# Altium schematic symbol library Memory_RAM.SchLib: 96 symbols (part 2 of 2)
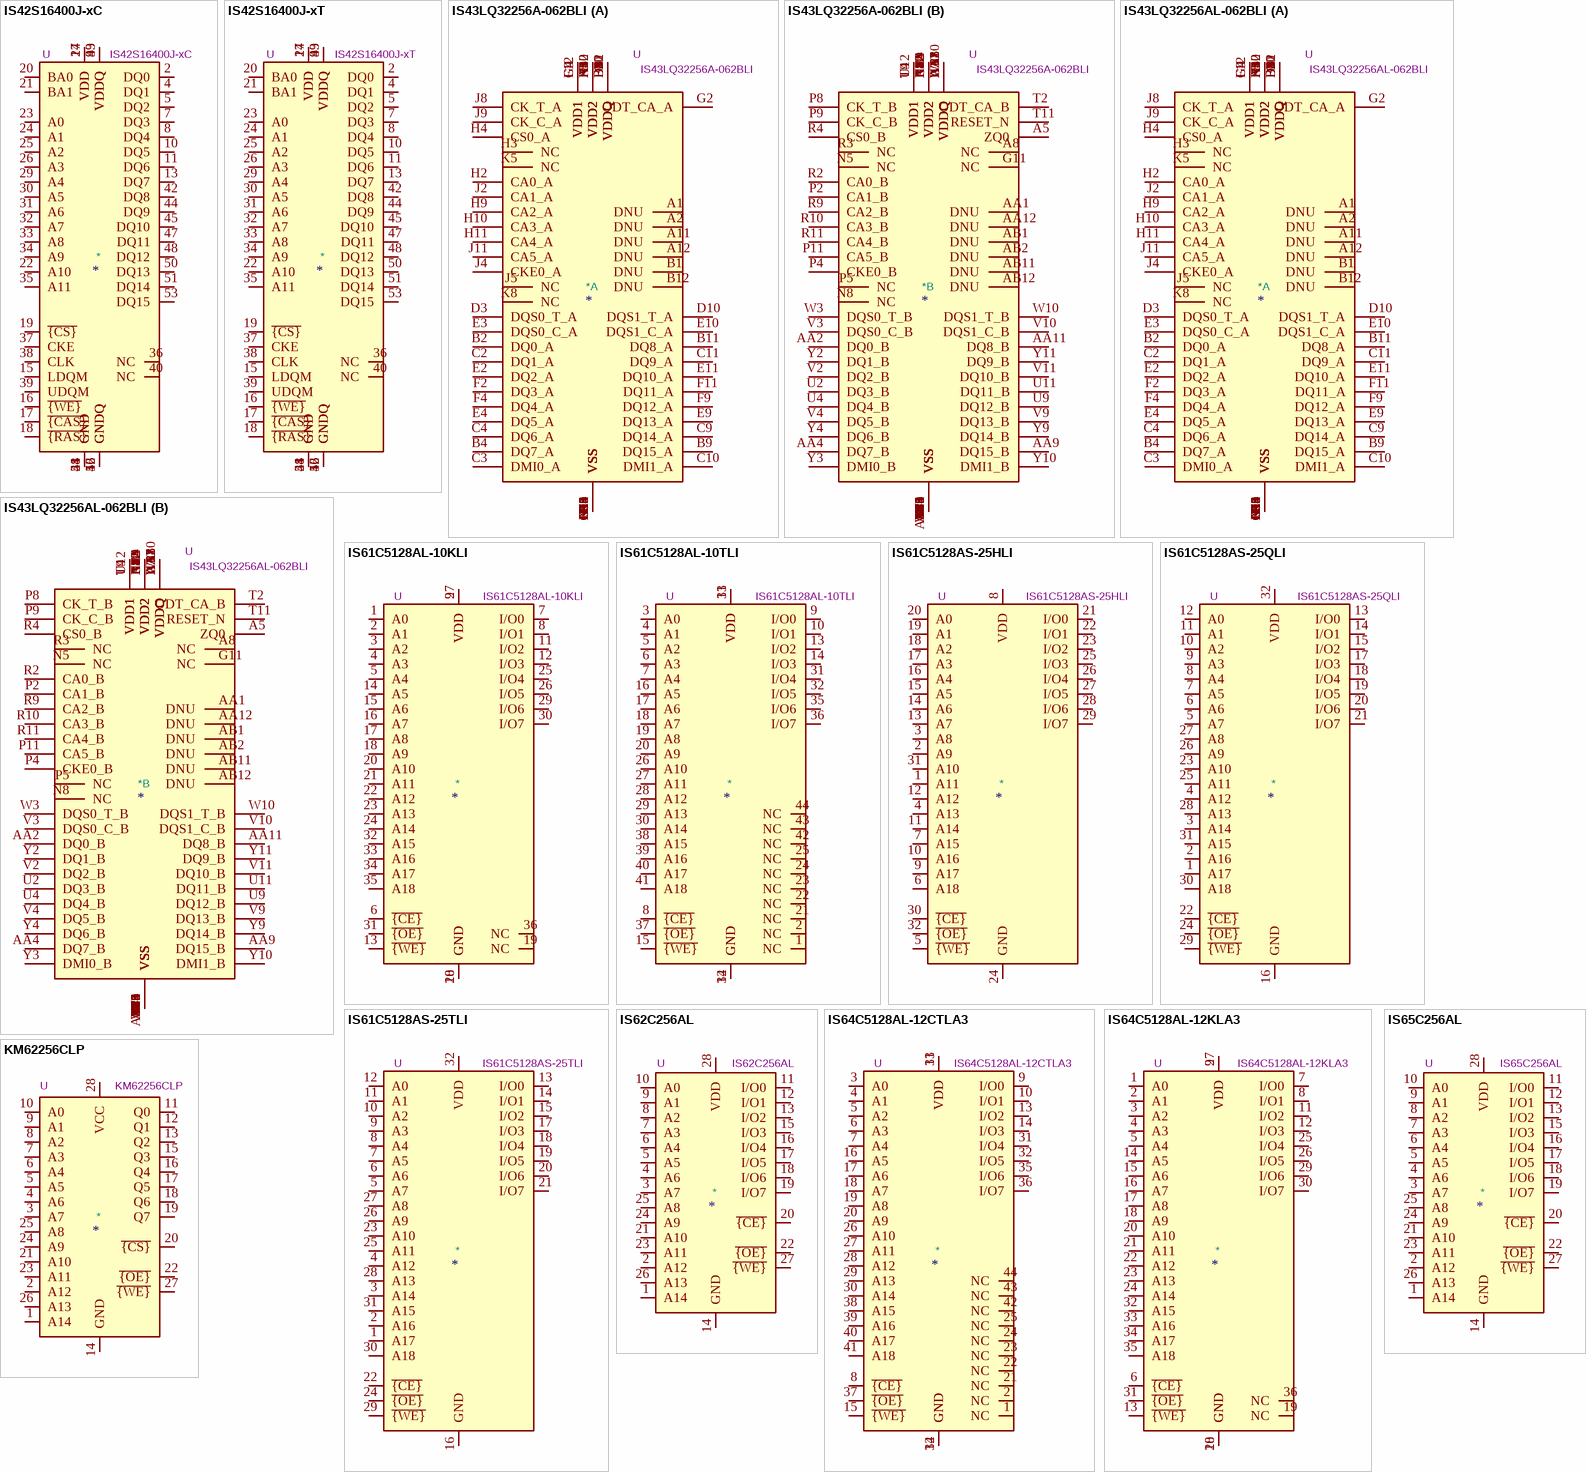
[diagram p6: symbols IS42S16400J-xC to KM62256CLP]

## IS61C5128AS-25TLI
designator *  value IS61C5128AS-25TLI  Reference: U
512K x 8 HIGH-SPEED CMOS STATIC RAM, 25ns, TSOP II-32; ki_keywords: SRAM MEMORY; ki_fp_filters: TSOP*21.0*10.*P1.27mm*; Footprint: Package_SO:TSOP-II-32_21.0x10.2mm_P1.27mm; Datasheet: http://www.issi.com/WW/pdf/61-64C5128AL.pdf; Description_: 512K x 8 HIGH-SPEED CMOS STATIC RAM, 25ns, TSOP II-32
pins: 1 A17, 2 A16, 3 A14, 4 A12, 5 A7, 6 A6, 7 A5, 8 A4, 9 A3, 10 A2, 11 A1, 12 A0, 13 I/O0, 14 I/O1, 15 I/O2, 16 GND, 17 I/O3, 18 I/O4, 19 I/O5, 20 I/O6, 21 I/O7, 22 ~{{CE}}, 23 A10, 24 ~{{OE}}, 25 A11, 26 A9, 27 A8, 28 A13, 29 ~{{WE}}, 30 A18, 31 A15, 32 VDD

## IS62C256AL
designator *  value IS62C256AL  Reference: U
32Kx8 bit Low Power CMOS Static RAM, 25/45ns; ki_keywords: SRAM MEMORY ISSI parallel-interface; ki_fp_filters: SOP*8.4*18.16*P1.27*; Footprint: Package_SO:SOP-28_8.4x18.16mm_P1.27mm; Datasheet: https://www.issi.com/WW/pdf/62-65C256AL.pdf; Description_: 32Kx8 bit Low Power CMOS Static RAM, 25/45ns
pins: 1 A14, 2 A12, 3 A7, 4 A6, 5 A5, 6 A4, 7 A3, 8 A2, 9 A1, 10 A0, 11 I/O0, 12 I/O1, 13 I/O2, 14 GND, 15 I/O3, 16 I/O4, 17 I/O5, 18 I/O6, 19 I/O7, 20 ~{{CE}}, 21 A10, 22 ~{{OE}}, 23 A11, 24 A9, 25 A8, 26 A13, 27 ~{{WE}}, 28 VDD

## IS64C5128AL-12CTLA3
designator *  value IS64C5128AL-12CTLA3  Reference: U
512K x 8 HIGH-SPEED CMOS STATIC RAM, 12ns, TSOP II-44; ki_keywords: SRAM MEMORY; ki_fp_filters: TSOP*10.16*18.*P0.8mm*; Footprint: Package_SO:TSOP-II-44_10.16x18.41mm_P0.8mm; Datasheet: http://www.issi.com/WW/pdf/61-64C5128AL.pdf; Description_: 512K x 8 HIGH-SPEED CMOS STATIC RAM, 12ns, TSOP II-44
pins: 1 NC, 2 NC, 3 A0, 4 A1, 5 A2, 6 A3, 7 A4, 8 ~{{CE}}, 9 I/O0, 10 I/O1, 11 VDD, 12 GND, 13 I/O2, 14 I/O3, 15 ~{{WE}}, 16 A5, 17 A6, 18 A7, 19 A8, 20 A9, 21 NC, 22 NC, 23 NC, 24 NC, 25 NC, 26 A10, 27 A11, 28 A12, 29 A13, 30 A14, 31 I/O4, 32 I/O5, 33 VDD, 34 GND, 35 I/O6, 36 I/O7, 37 ~{{OE}}, 38 A15, 39 A16, 40 A17, 41 A18, 42 NC, 43 NC, 44 NC

## IS64C5128AL-12KLA3
designator *  value IS64C5128AL-12KLA3  Reference: U
512K x 8 HIGH-SPEED CMOS STATIC RAM, 12ns, SOJ-36; ki_keywords: SRAM MEMORY; ki_fp_filters: SOJ*10.16*23.*P1.27mm*; Footprint: Package_SO:SOJ-36_10.16x23.495mm_P1.27mm; Datasheet: http://www.issi.com/WW/pdf/61-64C5128AL.pdf; Description_: 512K x 8 HIGH-SPEED CMOS STATIC RAM, 12ns, SOJ-36
pins: 1 A0, 2 A1, 3 A2, 4 A3, 5 A4, 6 ~{{CE}}, 7 I/O0, 8 I/O1, 9 VDD, 10 GND, 11 I/O2, 12 I/O3, 13 ~{{WE}}, 14 A5, 15 A6, 16 A7, 17 A8, 18 A9, 19 NC, 20 A10, 21 A11, 22 A12, 23 A13, 24 A14, 25 I/O4, 26 I/O5, 27 VDD, 28 GND, 29 I/O6, 30 I/O7, 31 ~{{OE}}, 32 A15, 33 A16, 34 A17, 35 A18, 36 NC

## IS65C256AL
designator *  value IS65C256AL  Reference: U
32Kx8 bit Low Power CMOS Static RAM, 25/45ns, Automotive; ki_keywords: SRAM MEMORY ISSI parallel-interface; ki_fp_filters: SOP*8.4*18.16*P1.27*; Footprint: Package_SO:SOP-28_8.4x18.16mm_P1.27mm; Datasheet: https://www.issi.com/WW/pdf/62-65C256AL.pdf; Description_: 32Kx8 bit Low Power CMOS Static RAM, 25/45ns, Automotive
pins: 1 A14, 2 A12, 3 A7, 4 A6, 5 A5, 6 A4, 7 A3, 8 A2, 9 A1, 10 A0, 11 I/O0, 12 I/O1, 13 I/O2, 14 GND, 15 I/O3, 16 I/O4, 17 I/O5, 18 I/O6, 19 I/O7, 20 ~{{CE}}, 21 A10, 22 ~{{OE}}, 23 A11, 24 A9, 25 A8, 26 A13, 27 ~{{WE}}, 28 VDD

## KM62256CLP
designator *  value KM62256CLP  Reference: U
32Kx8 bit Low Power CMOS Static RAM, 55/70ns, DIP-28; ki_keywords: RAM SRAM CMOS MEMORY; ki_fp_filters: DIP*W15.24mm*; Footprint: Package_DIP:DIP-28_W15.24mm; Datasheet: https://www.futurlec.com/Datasheet/Memory/62256.pdf; Description_: 32Kx8 bit Low Power CMOS Static RAM, 55/70ns, DIP-28
pins: 1 A14, 2 A12, 3 A7, 4 A6, 5 A5, 6 A4, 7 A3, 8 A2, 9 A1, 10 A0, 11 Q0, 12 Q1, 13 Q2, 14 GND, 15 Q3, 16 Q4, 17 Q5, 18 Q6, 19 Q7, 20 ~{{CS}}, 21 A10, 22 ~{{OE}}, 23 A11, 24 A9, 25 A8, 26 A13, 27 ~{{WE}}, 28 VCC

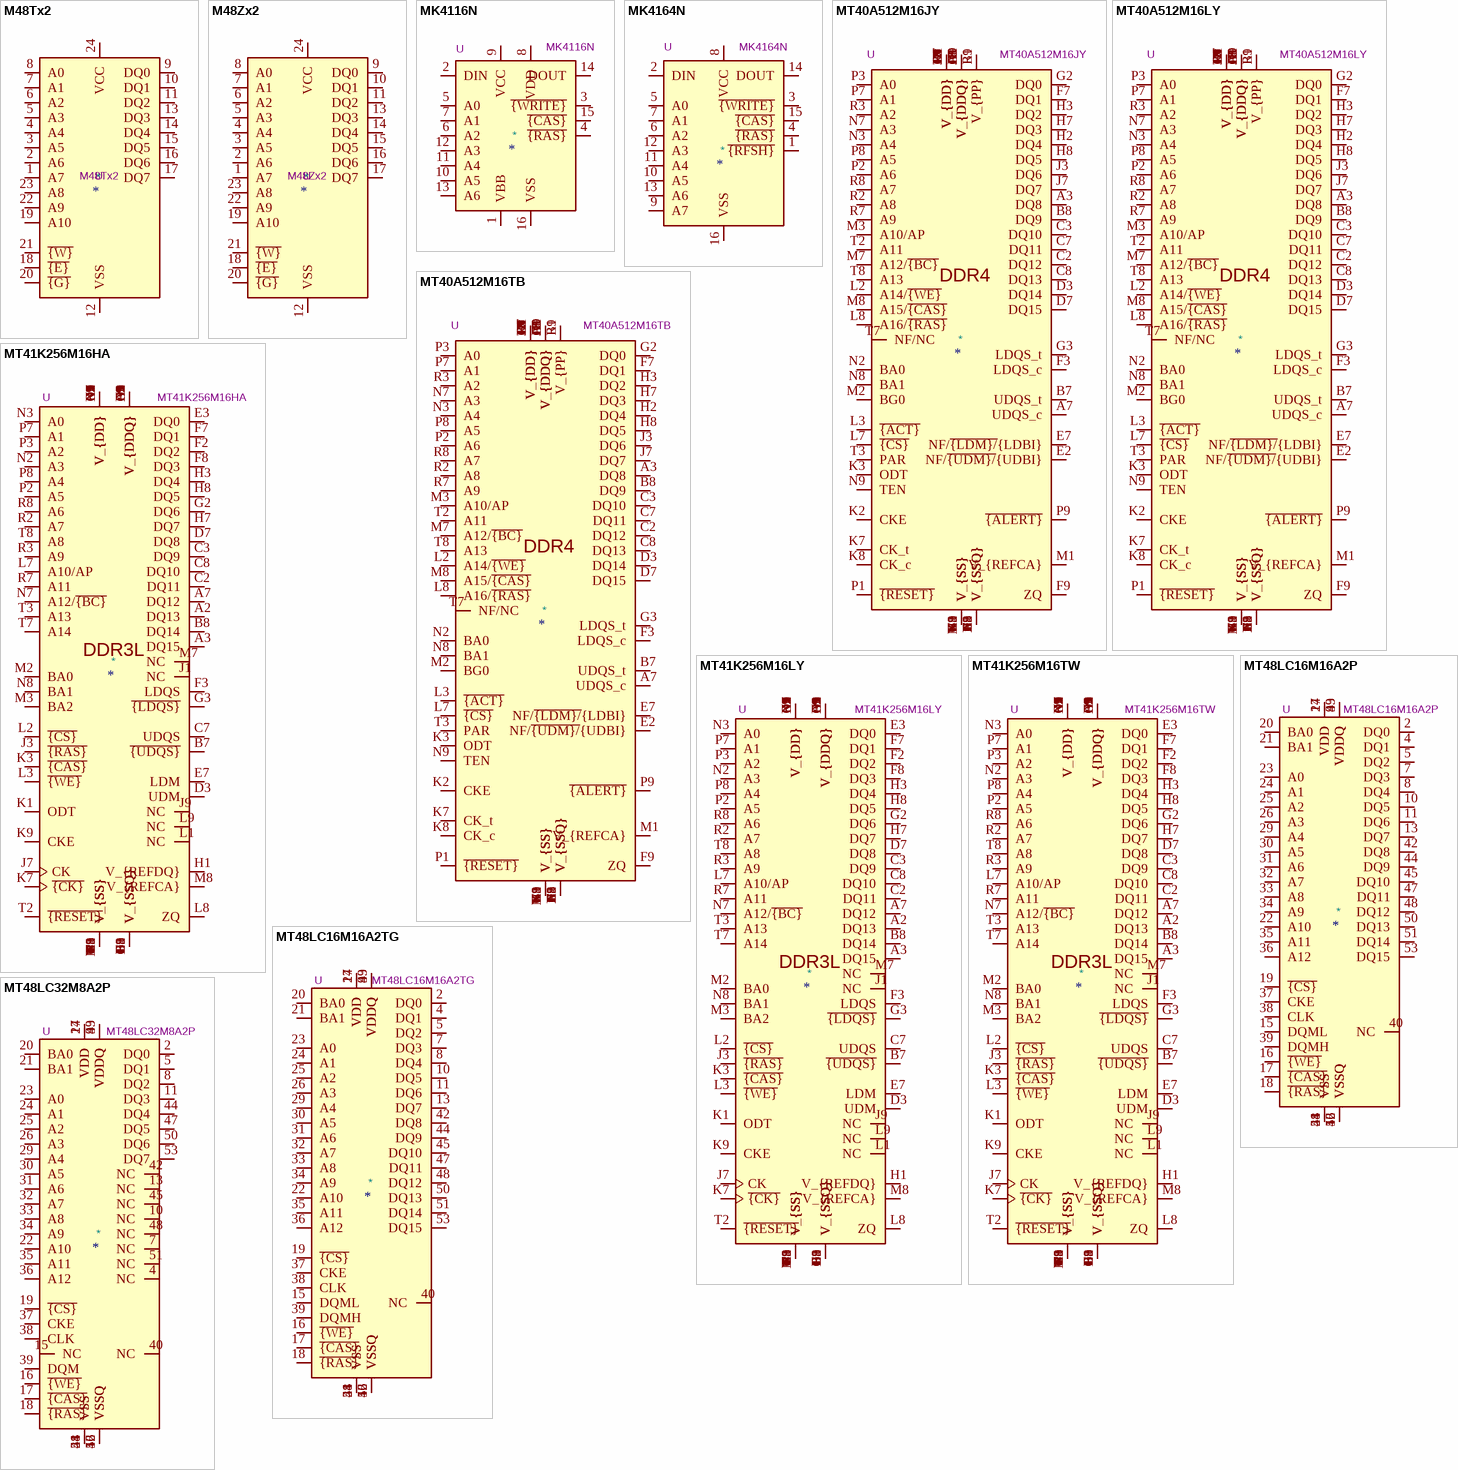
[diagram p4: symbols M48Tx2 to MT48LC32M8A2P]

## M48Tx2
designator *  value M48Tx2  Reference: U
5.0 V, 16 Kbit (2 Kb x 8) TIMEKEEPER® SRAM, DIP-24; ki_keywords: st M48T02 M48T12; ki_fp_filters: DIP*18.0mmx34.29mm*W15.24mm*; Footprint: Package_DIP:DIP-24_18.0mmx34.29mm_W15.24mm; Datasheet: https://www.mouser.at/datasheet/2/389/m48t02-1849963.pdf; Description_: 5.0 V, 16 Kbit (2 Kb x 8) TIMEKEEPER® SRAM, DIP-24
pins: 1 A7, 2 A6, 3 A5, 4 A4, 5 A3, 6 A2, 7 A1, 8 A0, 9 DQ0, 10 DQ1, 11 DQ2, 12 VSS, 13 DQ3, 14 DQ4, 15 DQ5, 16 DQ6, 17 DQ7, 18 ~{{E}}, 19 A10, 20 ~{{G}}, 21 ~{{W}}, 22 A9, 23 A8, 24 VCC

## M48Zx2
designator *  value M48Zx2  Reference: U
5 V, 16 kbit (2 Kb x 8) ZEROPOWER® SRAM, DIP-24; ki_keywords: st M48Z02 M48Z12; ki_fp_filters: DIP*18.0mmx34.29mm*W15.24mm*; Footprint: Package_DIP:DIP-24_18.0mmx34.29mm_W15.24mm; Datasheet: https://www.mouser.at/datasheet/2/389/m48z02-1849661.pdf; Description_: 5 V, 16 kbit (2 Kb x 8) ZEROPOWER® SRAM, DIP-24
pins: 1 A7, 2 A6, 3 A5, 4 A4, 5 A3, 6 A2, 7 A1, 8 A0, 9 DQ0, 10 DQ1, 11 DQ2, 12 VSS, 13 DQ3, 14 DQ4, 15 DQ5, 16 DQ6, 17 DQ7, 18 ~{{E}}, 19 A10, 20 ~{{G}}, 21 ~{{W}}, 22 A9, 23 A8, 24 VCC

## MK4116N
designator *  value MK4116N  Reference: U
16384 x 1 bit Dynamic RAM, 150/200/250ns access time, VBB -5V, VCC 5V, VDD 12V, ±10% tolerance on all power supplies, TTL compatible inputs, DIP-16 (Epoxy/Plastic package); ki_keywords: DRAM NMOS 16Kbit MEMORY Obsolete; ki_fp_filters: *DIP*7.62mm*; Footprint: Package_DIP:DIP-16_W7.62mm; Datasheet: https://deramp.com/downloads/mfe_archive/050-Component%20Specifications/Mostek/1980_Mostek_Memory_Data_Book_and_Designers_Guide.pdf#page=98; Description_: 16384 x 1 bit Dynamic RAM, 150/200/250ns access time, VBB -5V, VCC 5V, VDD 12V, ±10% tolerance on all power supplies, TTL compatible inputs, DIP-16 (Epoxy/Plastic package)
pins: 1 VBB, 2 DIN, 3 ~{{WRITE}}, 4 ~{{RAS}}, 5 A0, 6 A2, 7 A1, 8 VDD, 9 VCC, 10 A5, 11 A4, 12 A3, 13 A6, 14 DOUT, 15 ~{{CAS}}, 16 VSS

## MK4164N
designator *  value MK4164N  Reference: U
65536 x 1 bit Dynamic RAM, 120/150ns access time, single 5V ±10% power supply, TTL compatible inputs, DIP-16 (Epoxy/Plastic package); ki_keywords: DRAM NMOS 64Kbit MEMORY Obsolete; ki_fp_filters: *DIP*7.62mm*; Footprint: Package_DIP:DIP-16_W7.62mm; Datasheet: https://deramp.com/downloads/mfe_archive/050-Component%20Specifications/Mostek/1980_Mostek_Memory_Data_Book_and_Designers_Guide.pdf#page=134; Description_: 65536 x 1 bit Dynamic RAM, 120/150ns access time, single 5V ±10% power supply, TTL compatible inputs, DIP-16 (Epoxy/Plastic package)
pins: 1 ~{{RFSH}}, 2 DIN, 3 ~{{WRITE}}, 4 ~{{RAS}}, 5 A0, 6 A2, 7 A1, 8 VCC, 9 A7, 10 A5, 11 A4, 12 A3, 13 A6, 14 DOUT, 15 ~{{CAS}}, 16 VSS

## MT40A512M16JY
designator *  value MT40A512M16JY  Reference: U
512M x 16-bit (8 Gbit) CMOS Double Data Rate IV Synchronous RAM, Rev. B, FBGA-96; ki_keywords: DDR4 DRAM SDRAM x16 MEMORY; ki_fp_filters: *FBGA*8x14mm*Layout9x16*P0.8mm*; Footprint: Package_BGA:Micron_FBGA-96_8x14mm_Layout9x16_P0.8mm; Datasheet: https://eu.mouser.com/datasheet/2/671/8gb_ddr4_sdram-3178955.pdf; Description_: 512M x 16-bit (8 Gbit) CMOS Double Data Rate IV Synchronous RAM, Rev. B, FBGA-96
pins: A1 V_{DDQ}, A2 V_{SSQ}, A3 DQ8, A7 UDQS_c, A8 V_{SSQ}, A9 V_{DDQ}, B1 V_{PP}, B2 V_{SS}, B3 V_{DD}, B7 UDQS_t, B8 DQ9, B9 V_{DD}, C1 V_{DDQ}, C2 DQ12, C3 DQ10, C7 DQ11, C8 DQ13, C9 V_{SSQ}, D1 V_{DD}, D2 V_{SSQ}, D3 DQ14, D7 DQ15, D8 V_{SSQ}, D9 V_{DDQ}, E1 V_{SS}, E2 NF/~{{UDM}/}{UDBI}, E3 V_{SSQ}, E7 NF/~{{LDM}/}{LDBI}, E8 V_{SSQ}, E9 V_{SS}, F1 V_{SSQ}, F2 V_{DDQ}, F3 LDQS_c, F7 DQ1, F8 V_{DDQ}, F9 ZQ, G1 V_{DDQ}, G2 DQ0, G3 LDQS_t, G7 V_{DD}, G8 V_{SS}, G9 V_{DDQ}, H1 V_{SSQ}, H2 DQ4, H3 DQ2, H7 DQ3, H8 DQ5, H9 V_{SSQ}, J1 V_{DD}, J2 V_{DDQ}, J3 DQ6, J7 DQ7, J8 V_{DDQ}, J9 V_{DD}, K1 V_{SS}, K2 CKE, K3 ODT, K7 CK_t, K8 CK_c, K9 V_{SS}, L1 V_{DD}, L2 A14/~{{WE}}, L3 ~{{ACT}}, L7 ~{{CS}}, L8 A16/~{{RAS}}, L9 V_{DD}, M1 V_{REFCA}, M2 BG0, M3 A10/AP, M7 A12/~{{BC}}, M8 A15/~{{CAS}}, M9 V_{SS}, N1 V_{SS}, N2 BA0, N3 A4, N7 A3, N8 BA1, N9 TEN, P1 ~{{RESET}}, P2 A6, P3 A0, P7 A1, P8 A5, P9 ~{{ALERT}}, R1 V_{DD}, R2 A8, R3 A2, R7 A9, R8 A7, R9 V_{PP}, T1 V_{SS}, T2 A11, T3 PAR, T7 NF/NC, T8 A13, T9 V_{DD}
text: DDR4

## MT40A512M16LY
designator *  value MT40A512M16LY  Reference: U
512M x 16-bit (8 Gbit) CMOS Double Data Rate IV Synchronous RAM, Rev. D / E / H, FBGA-96; ki_keywords: DDR4 DRAM SDRAM x16 MEMORY; ki_fp_filters: *FBGA*7.5x13.5mm*Layout9x16*P0.8mm*; Footprint: Package_BGA:Micron_FBGA-96_7.5x13.5mm_Layout9x16_P0.8mm; Datasheet: https://eu.mouser.com/datasheet/2/671/8gb_ddr4_sdram-3178955.pdf; Description_: 512M x 16-bit (8 Gbit) CMOS Double Data Rate IV Synchronous RAM, Rev. D / E / H, FBGA-96
pins: A1 V_{DDQ}, A2 V_{SSQ}, A3 DQ8, A7 UDQS_c, A8 V_{SSQ}, A9 V_{DDQ}, B1 V_{PP}, B2 V_{SS}, B3 V_{DD}, B7 UDQS_t, B8 DQ9, B9 V_{DD}, C1 V_{DDQ}, C2 DQ12, C3 DQ10, C7 DQ11, C8 DQ13, C9 V_{SSQ}, D1 V_{DD}, D2 V_{SSQ}, D3 DQ14, D7 DQ15, D8 V_{SSQ}, D9 V_{DDQ}, E1 V_{SS}, E2 NF/~{{UDM}/}{UDBI}, E3 V_{SSQ}, E7 NF/~{{LDM}/}{LDBI}, E8 V_{SSQ}, E9 V_{SS}, F1 V_{SSQ}, F2 V_{DDQ}, F3 LDQS_c, F7 DQ1, F8 V_{DDQ}, F9 ZQ, G1 V_{DDQ}, G2 DQ0, G3 LDQS_t, G7 V_{DD}, G8 V_{SS}, G9 V_{DDQ}, H1 V_{SSQ}, H2 DQ4, H3 DQ2, H7 DQ3, H8 DQ5, H9 V_{SSQ}, J1 V_{DD}, J2 V_{DDQ}, J3 DQ6, J7 DQ7, J8 V_{DDQ}, J9 V_{DD}, K1 V_{SS}, K2 CKE, K3 ODT, K7 CK_t, K8 CK_c, K9 V_{SS}, L1 V_{DD}, L2 A14/~{{WE}}, L3 ~{{ACT}}, L7 ~{{CS}}, L8 A16/~{{RAS}}, L9 V_{DD}, M1 V_{REFCA}, M2 BG0, M3 A10/AP, M7 A12/~{{BC}}, M8 A15/~{{CAS}}, M9 V_{SS}, N1 V_{SS}, N2 BA0, N3 A4, N7 A3, N8 BA1, N9 TEN, P1 ~{{RESET}}, P2 A6, P3 A0, P7 A1, P8 A5, P9 ~{{ALERT}}, R1 V_{DD}, R2 A8, R3 A2, R7 A9, R8 A7, R9 V_{PP}, T1 V_{SS}, T2 A11, T3 PAR, T7 NF/NC, T8 A13, T9 V_{DD}
text: DDR4

## MT40A512M16TB
designator *  value MT40A512M16TB  Reference: U
512M x 16-bit (8 Gbit) CMOS Double Data Rate IV Synchronous RAM, Rev. J / R, FBGA-96; ki_keywords: DDR4 DRAM SDRAM x16 MEMORY; ki_fp_filters: *FBGA*7.5x13mm*Layout9x16*P0.8mm*; Footprint: Package_BGA:FBGA-96_7.5x13mm_Layout9x16_P0.8mm; Datasheet: https://eu.mouser.com/datasheet/2/671/8gb_ddr4_sdram-3178955.pdf; Description_: 512M x 16-bit (8 Gbit) CMOS Double Data Rate IV Synchronous RAM, Rev. J / R, FBGA-96
pins: A1 V_{DDQ}, A2 V_{SSQ}, A3 DQ8, A7 UDQS_c, A8 V_{SSQ}, A9 V_{DDQ}, B1 V_{PP}, B2 V_{SS}, B3 V_{DD}, B7 UDQS_t, B8 DQ9, B9 V_{DD}, C1 V_{DDQ}, C2 DQ12, C3 DQ10, C7 DQ11, C8 DQ13, C9 V_{SSQ}, D1 V_{DD}, D2 V_{SSQ}, D3 DQ14, D7 DQ15, D8 V_{SSQ}, D9 V_{DDQ}, E1 V_{SS}, E2 NF/~{{UDM}/}{UDBI}, E3 V_{SSQ}, E7 NF/~{{LDM}/}{LDBI}, E8 V_{SSQ}, E9 V_{SS}, F1 V_{SSQ}, F2 V_{DDQ}, F3 LDQS_c, F7 DQ1, F8 V_{DDQ}, F9 ZQ, G1 V_{DDQ}, G2 DQ0, G3 LDQS_t, G7 V_{DD}, G8 V_{SS}, G9 V_{DDQ}, H1 V_{SSQ}, H2 DQ4, H3 DQ2, H7 DQ3, H8 DQ5, H9 V_{SSQ}, J1 V_{DD}, J2 V_{DDQ}, J3 DQ6, J7 DQ7, J8 V_{DDQ}, J9 V_{DD}, K1 V_{SS}, K2 CKE, K3 ODT, K7 CK_t, K8 CK_c, K9 V_{SS}, L1 V_{DD}, L2 A14/~{{WE}}, L3 ~{{ACT}}, L7 ~{{CS}}, L8 A16/~{{RAS}}, L9 V_{DD}, M1 V_{REFCA}, M2 BG0, M3 A10/AP, M7 A12/~{{BC}}, M8 A15/~{{CAS}}, M9 V_{SS}, N1 V_{SS}, N2 BA0, N3 A4, N7 A3, N8 BA1, N9 TEN, P1 ~{{RESET}}, P2 A6, P3 A0, P7 A1, P8 A5, P9 ~{{ALERT}}, R1 V_{DD}, R2 A8, R3 A2, R7 A9, R8 A7, R9 V_{PP}, T1 V_{SS}, T2 A11, T3 PAR, T7 NF/NC, T8 A13, T9 V_{DD}
text: DDR4

## MT41K256M16HA
designator *  value MT41K256M16HA  Reference: U
32M x 16-bit x 8 Banks (4-Gbit / 512 MB) DDR3L SDRAM, 1.35V nominal supply voltage, Rev. E, FBGA-96 (9x14mm); ki_keywords: Micron MEMORY Double-Data-Rate-3 Low-Voltage-Synchronous-DRAM; ki_fp_filters: Micron*FBGA*9x14mm*Layout9x16*P0.8mm*; Footprint: Package_BGA:Micron_FBGA-96_9x14mm_Layout9x16_P0.8mm; Datasheet: https://mm.digikey.com/Volume0/opasdata/d220001/medias/docus/6128/MT41K1G4_MT41K512M8_MT41K256M16_RevR_Sep2018.pdf; Description_: 32M x 16-bit x 8 Banks (4-Gbit / 512 MB) DDR3L SDRAM, 1.35V nominal supply voltage, Rev. E, FBGA-96 (9x14mm)
pins: A1 V_{DDQ}, A2 DQ13, A3 DQ15, A7 DQ12, A8 V_{DDQ}, A9 V_{SS}, B1 V_{SSQ}, B2 V_{DD}, B3 V_{SS}, B7 ~{{UDQS}}, B8 DQ14, B9 V_{SSQ}, C1 V_{DDQ}, C2 DQ11, C3 DQ9, C7 UDQS, C8 DQ10, C9 V_{DDQ}, D1 V_{SSQ}, D2 V_{DDQ}, D3 UDM, D7 DQ8, D8 V_{SSQ}, D9 V_{DD}, E1 V_{SS}, E2 V_{SSQ}, E3 DQ0, E7 LDM, E8 V_{SSQ}, E9 V_{DDQ}, F1 V_{DDQ}, F2 DQ2, F3 LDQS, F7 DQ1, F8 DQ3, F9 V_{SSQ}, G1 V_{SSQ}, G2 DQ6, G3 ~{{LDQS}}, G7 V_{DD}, G8 V_{SS}, G9 V_{SSQ}, H1 V_{REFDQ}, H2 V_{DDQ}, H3 DQ4, H7 DQ7, H8 DQ5, H9 V_{DDQ}, J1 NC, J2 V_{SS}, J3 ~{{RAS}}, J7 CK, J8 V_{SS}, J9 NC, K1 ODT, K2 V_{DD}, K3 ~{{CAS}}, K7 ~{{CK}}, K8 V_{DD}, K9 CKE, L1 NC, L2 ~{{CS}}, L3 ~{{WE}}, L7 A10/AP, L8 ZQ, L9 NC, M1 V_{SS}, M2 BA0, M3 BA2, M7 NC, M8 V_{REFCA}, M9 V_{SS}, N1 V_{DD}, N2 A3, N3 A0, N7 A12/~{{BC}}, N8 BA1, N9 V_{DD}, P1 V_{SS}, P2 A5, P3 A2, P7 A1, P8 A4, P9 V_{SS}, R1 V_{DD}, R2 A7, R3 A9, R7 A11, R8 A6, R9 V_{DD}, T1 V_{SS}, T2 ~{{RESET}}, T3 A13, T7 A14, T8 A8, T9 V_{SS}
text: DDR3L

## MT41K256M16LY
designator *  value MT41K256M16LY  Reference: U
32M x 16-bit x 8 Banks (4-Gbit / 512 MB) DDR3L SDRAM, 1.35V nominal supply voltage, Rev. N, FBGA-96 (7.5x13.5mm); ki_keywords: Micron MEMORY Double-Data-Rate-3 Low-Voltage-Synchronous-DRAM; ki_fp_filters: Micron*FBGA*7.5x13.5mm*Layout9x16*P0.8mm*; Footprint: Package_BGA:Micron_FBGA-96_7.5x13.5mm_Layout9x16_P0.8mm; Datasheet: https://mm.digikey.com/Volume0/opasdata/d220001/medias/docus/6128/MT41K1G4_MT41K512M8_MT41K256M16_RevR_Sep2018.pdf; Description_: 32M x 16-bit x 8 Banks (4-Gbit / 512 MB) DDR3L SDRAM, 1.35V nominal supply voltage, Rev. N, FBGA-96 (7.5x13.5mm)
pins: A1 V_{DDQ}, A2 DQ13, A3 DQ15, A7 DQ12, A8 V_{DDQ}, A9 V_{SS}, B1 V_{SSQ}, B2 V_{DD}, B3 V_{SS}, B7 ~{{UDQS}}, B8 DQ14, B9 V_{SSQ}, C1 V_{DDQ}, C2 DQ11, C3 DQ9, C7 UDQS, C8 DQ10, C9 V_{DDQ}, D1 V_{SSQ}, D2 V_{DDQ}, D3 UDM, D7 DQ8, D8 V_{SSQ}, D9 V_{DD}, E1 V_{SS}, E2 V_{SSQ}, E3 DQ0, E7 LDM, E8 V_{SSQ}, E9 V_{DDQ}, F1 V_{DDQ}, F2 DQ2, F3 LDQS, F7 DQ1, F8 DQ3, F9 V_{SSQ}, G1 V_{SSQ}, G2 DQ6, G3 ~{{LDQS}}, G7 V_{DD}, G8 V_{SS}, G9 V_{SSQ}, H1 V_{REFDQ}, H2 V_{DDQ}, H3 DQ4, H7 DQ7, H8 DQ5, H9 V_{DDQ}, J1 NC, J2 V_{SS}, J3 ~{{RAS}}, J7 CK, J8 V_{SS}, J9 NC, K1 ODT, K2 V_{DD}, K3 ~{{CAS}}, K7 ~{{CK}}, K8 V_{DD}, K9 CKE, L1 NC, L2 ~{{CS}}, L3 ~{{WE}}, L7 A10/AP, L8 ZQ, L9 NC, M1 V_{SS}, M2 BA0, M3 BA2, M7 NC, M8 V_{REFCA}, M9 V_{SS}, N1 V_{DD}, N2 A3, N3 A0, N7 A12/~{{BC}}, N8 BA1, N9 V_{DD}, P1 V_{SS}, P2 A5, P3 A2, P7 A1, P8 A4, P9 V_{SS}, R1 V_{DD}, R2 A7, R3 A9, R7 A11, R8 A6, R9 V_{DD}, T1 V_{SS}, T2 ~{{RESET}}, T3 A13, T7 A14, T8 A8, T9 V_{SS}
text: DDR3L

## MT41K256M16TW
designator *  value MT41K256M16TW  Reference: U
32M x 16-bit x 8 Banks (4-Gbit / 512 MB) DDR3L SDRAM, 1.35V nominal supply voltage, Rev. P, FBGA-96 (8x14mm); ki_keywords: Micron MEMORY Double-Data-Rate-3 Low-Voltage-Synchronous-DRAM; ki_fp_filters: Micron*FBGA*8x14mm*Layout9x16*P0.8mm*; Footprint: Package_BGA:Micron_FBGA-96_8x14mm_Layout9x16_P0.8mm; Datasheet: https://mm.digikey.com/Volume0/opasdata/d220001/medias/docus/6128/MT41K1G4_MT41K512M8_MT41K256M16_RevR_Sep2018.pdf; Description_: 32M x 16-bit x 8 Banks (4-Gbit / 512 MB) DDR3L SDRAM, 1.35V nominal supply voltage, Rev. P, FBGA-96 (8x14mm)
pins: A1 V_{DDQ}, A2 DQ13, A3 DQ15, A7 DQ12, A8 V_{DDQ}, A9 V_{SS}, B1 V_{SSQ}, B2 V_{DD}, B3 V_{SS}, B7 ~{{UDQS}}, B8 DQ14, B9 V_{SSQ}, C1 V_{DDQ}, C2 DQ11, C3 DQ9, C7 UDQS, C8 DQ10, C9 V_{DDQ}, D1 V_{SSQ}, D2 V_{DDQ}, D3 UDM, D7 DQ8, D8 V_{SSQ}, D9 V_{DD}, E1 V_{SS}, E2 V_{SSQ}, E3 DQ0, E7 LDM, E8 V_{SSQ}, E9 V_{DDQ}, F1 V_{DDQ}, F2 DQ2, F3 LDQS, F7 DQ1, F8 DQ3, F9 V_{SSQ}, G1 V_{SSQ}, G2 DQ6, G3 ~{{LDQS}}, G7 V_{DD}, G8 V_{SS}, G9 V_{SSQ}, H1 V_{REFDQ}, H2 V_{DDQ}, H3 DQ4, H7 DQ7, H8 DQ5, H9 V_{DDQ}, J1 NC, J2 V_{SS}, J3 ~{{RAS}}, J7 CK, J8 V_{SS}, J9 NC, K1 ODT, K2 V_{DD}, K3 ~{{CAS}}, K7 ~{{CK}}, K8 V_{DD}, K9 CKE, L1 NC, L2 ~{{CS}}, L3 ~{{WE}}, L7 A10/AP, L8 ZQ, L9 NC, M1 V_{SS}, M2 BA0, M3 BA2, M7 NC, M8 V_{REFCA}, M9 V_{SS}, N1 V_{DD}, N2 A3, N3 A0, N7 A12/~{{BC}}, N8 BA1, N9 V_{DD}, P1 V_{SS}, P2 A5, P3 A2, P7 A1, P8 A4, P9 V_{SS}, R1 V_{DD}, R2 A7, R3 A9, R7 A11, R8 A6, R9 V_{DD}, T1 V_{SS}, T2 ~{{RESET}}, T3 A13, T7 A14, T8 A8, T9 V_{SS}
text: DDR3L

## MT48LC16M16A2P
designator *  value MT48LC16M16A2P  Reference: U
256M – (16M x 16 bit) Synchronous DRAM (SDRAM), TSOP-II-54; ki_keywords: SDRAM Synchronous DRAM PC100 PC133 256Mb 16Mbx16 MEMORY; ki_fp_filters: TSOP?II*22.2x10.16mm*P0.8mm*; Footprint: Package_SO:TSOP-II-54_22.2x10.16mm_P0.8mm; Datasheet: https://www.micron.com/-/media/client/global/documents/products/data-sheet/dram/256mb_sdr.pdf; Description_: 256M – (16M x 16 bit) Synchronous DRAM (SDRAM), TSOP-II-54
pins: 1 VDD, 2 DQ0, 3 VDDQ, 4 DQ1, 5 DQ2, 6 VSSQ, 7 DQ3, 8 DQ4, 9 VDDQ, 10 DQ5, 11 DQ6, 12 VSSQ, 13 DQ7, 14 VDD, 15 DQML, 16 ~{{WE}}, 17 ~{{CAS}}, 18 ~{{RAS}}, 19 ~{{CS}}, 20 BA0, 21 BA1, 22 A10, 23 A0, 24 A1, 25 A2, 26 A3, 27 VDD, 28 VSS, 29 A4, 30 A5, 31 A6, 32 A7, 33 A8, 34 A9, 35 A11, 36 A12, 37 CKE, 38 CLK, 39 DQMH, 40 NC, 41 VSS, 42 DQ8, 43 VDDQ, 44 DQ9, 45 DQ10, 46 VSSQ, 47 DQ11, 48 DQ12, 49 VDDQ, 50 DQ13, 51 DQ14, 52 VSSQ, 53 DQ15, 54 VSS

## MT48LC16M16A2TG
designator *  value MT48LC16M16A2TG  Reference: U
256M – (16M x 16 bit) Synchronous DRAM (SDRAM), TSOP-II-54; ki_keywords: SDRAM Synchronous DRAM PC100 PC133 256Mb 16Mbx16 MEMORY; ki_fp_filters: TSOP?II*22.2x10.16mm*P0.8mm*; Footprint: Package_SO:TSOP-II-54_22.2x10.16mm_P0.8mm; Datasheet: https://www.micron.com/-/media/client/global/documents/products/data-sheet/dram/256mb_sdr.pdf; Description_: 256M – (16M x 16 bit) Synchronous DRAM (SDRAM), TSOP-II-54
pins: 1 VDD, 2 DQ0, 3 VDDQ, 4 DQ1, 5 DQ2, 6 VSSQ, 7 DQ3, 8 DQ4, 9 VDDQ, 10 DQ5, 11 DQ6, 12 VSSQ, 13 DQ7, 14 VDD, 15 DQML, 16 ~{{WE}}, 17 ~{{CAS}}, 18 ~{{RAS}}, 19 ~{{CS}}, 20 BA0, 21 BA1, 22 A10, 23 A0, 24 A1, 25 A2, 26 A3, 27 VDD, 28 VSS, 29 A4, 30 A5, 31 A6, 32 A7, 33 A8, 34 A9, 35 A11, 36 A12, 37 CKE, 38 CLK, 39 DQMH, 40 NC, 41 VSS, 42 DQ8, 43 VDDQ, 44 DQ9, 45 DQ10, 46 VSSQ, 47 DQ11, 48 DQ12, 49 VDDQ, 50 DQ13, 51 DQ14, 52 VSSQ, 53 DQ15, 54 VSS

## MT48LC32M8A2P
designator *  value MT48LC32M8A2P  Reference: U
256M – (32M x 8 bit) Synchronous DRAM (SDRAM), TSOP-II-54; ki_keywords: SDRAM Synchronous DRAM PC100 PC133 256Mb 32Mbx8 MEMORY; ki_fp_filters: TSOP?II*22.2x10.16mm*P0.8mm*; Footprint: Package_SO:TSOP-II-54_22.2x10.16mm_P0.8mm; Datasheet: https://www.micron.com/-/media/client/global/documents/products/data-sheet/dram/256mb_sdr.pdf; Description_: 256M – (32M x 8 bit) Synchronous DRAM (SDRAM), TSOP-II-54
pins: 1 VDD, 2 DQ0, 3 VDDQ, 4 NC, 5 DQ1, 6 VSSQ, 7 NC, 8 DQ2, 9 VDDQ, 10 NC, 11 DQ3, 12 VSSQ, 13 NC, 14 VDD, 15 NC, 16 ~{{WE}}, 17 ~{{CAS}}, 18 ~{{RAS}}, 19 ~{{CS}}, 20 BA0, 21 BA1, 22 A10, 23 A0, 24 A1, 25 A2, 26 A3, 27 VDD, 28 VSS, 29 A4, 30 A5, 31 A6, 32 A7, 33 A8, 34 A9, 35 A11, 36 A12, 37 CKE, 38 CLK, 39 DQM, 40 NC, 41 VSS, 42 NC, 43 VDDQ, 44 DQ4, 45 NC, 46 VSSQ, 47 DQ5, 48 NC, 49 VDDQ, 50 DQ6, 51 NC, 52 VSSQ, 53 DQ7, 54 VSS

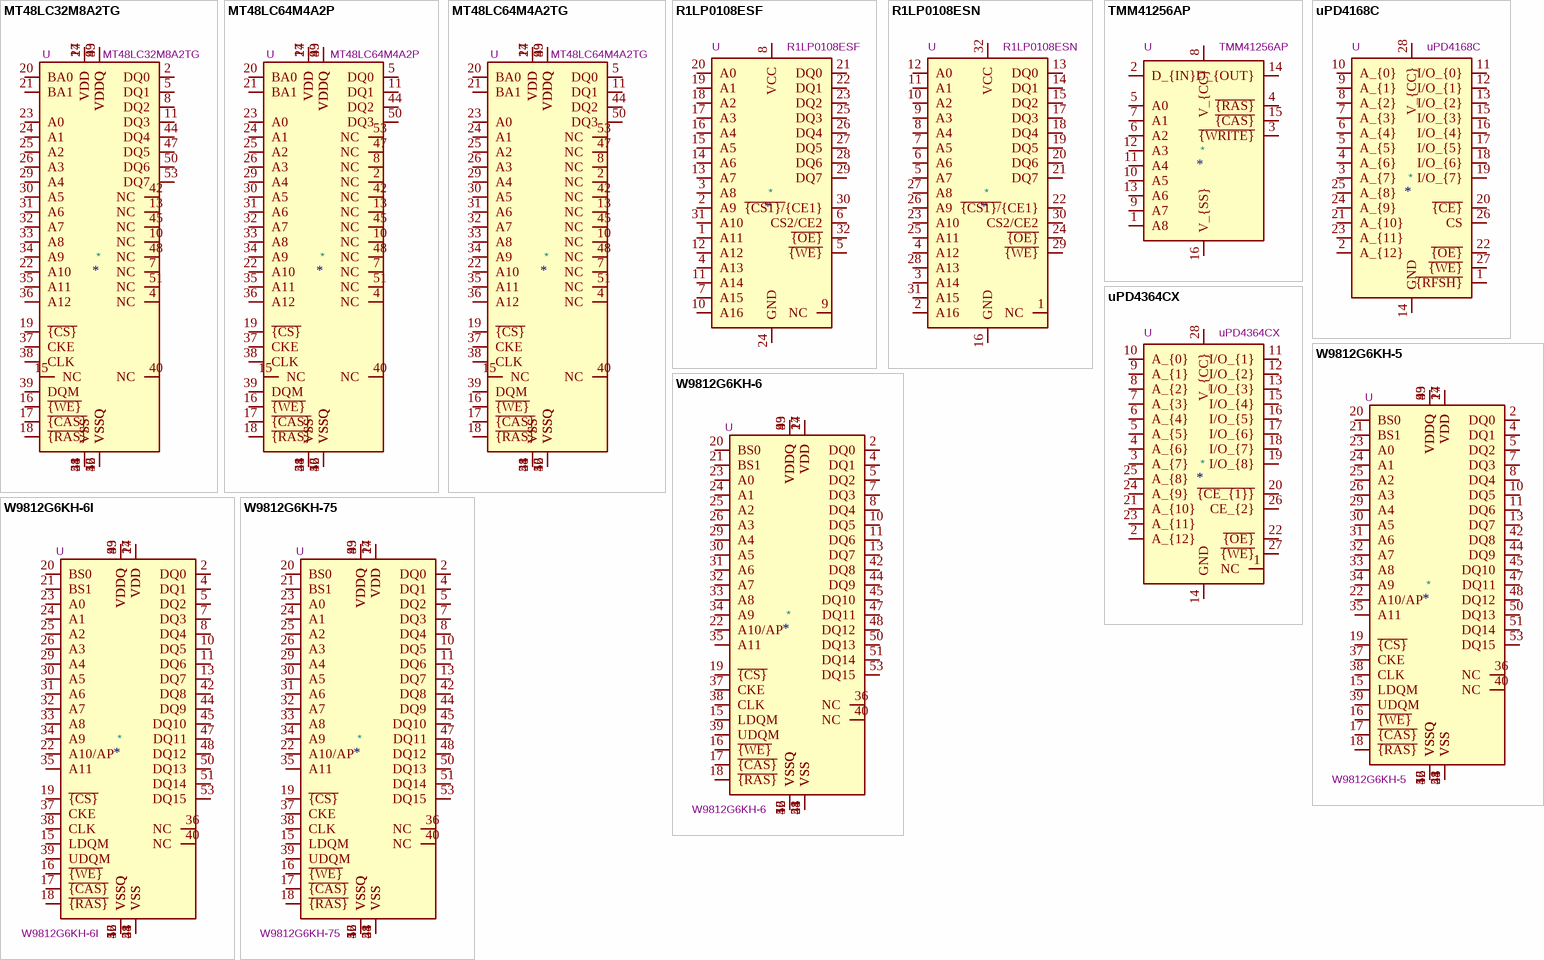
[diagram p5: symbols MT48LC32M8A2TG to W9812G6KH-75]

## MT48LC32M8A2TG
designator *  value MT48LC32M8A2TG  Reference: U
256M – (32M x 8 bit) Synchronous DRAM (SDRAM), TSOP-II-54; ki_keywords: SDRAM Synchronous DRAM PC100 PC133 256Mb 32Mbx8 MEMORY; ki_fp_filters: TSOP?II*22.2x10.16mm*P0.8mm*; Footprint: Package_SO:TSOP-II-54_22.2x10.16mm_P0.8mm; Datasheet: https://www.micron.com/-/media/client/global/documents/products/data-sheet/dram/256mb_sdr.pdf; Description_: 256M – (32M x 8 bit) Synchronous DRAM (SDRAM), TSOP-II-54
pins: 1 VDD, 2 DQ0, 3 VDDQ, 4 NC, 5 DQ1, 6 VSSQ, 7 NC, 8 DQ2, 9 VDDQ, 10 NC, 11 DQ3, 12 VSSQ, 13 NC, 14 VDD, 15 NC, 16 ~{{WE}}, 17 ~{{CAS}}, 18 ~{{RAS}}, 19 ~{{CS}}, 20 BA0, 21 BA1, 22 A10, 23 A0, 24 A1, 25 A2, 26 A3, 27 VDD, 28 VSS, 29 A4, 30 A5, 31 A6, 32 A7, 33 A8, 34 A9, 35 A11, 36 A12, 37 CKE, 38 CLK, 39 DQM, 40 NC, 41 VSS, 42 NC, 43 VDDQ, 44 DQ4, 45 NC, 46 VSSQ, 47 DQ5, 48 NC, 49 VDDQ, 50 DQ6, 51 NC, 52 VSSQ, 53 DQ7, 54 VSS

## MT48LC64M4A2P
designator *  value MT48LC64M4A2P  Reference: U
256M – (64M x 4 bit) Synchronous DRAM (SDRAM), TSOP-II-54; ki_keywords: SDRAM Synchronous DRAM PC100 PC133 256Mb 64Mbx4 MEMORY; ki_fp_filters: TSOP?II*22.2x10.16mm*P0.8mm*; Footprint: Package_SO:TSOP-II-54_22.2x10.16mm_P0.8mm; Datasheet: https://www.micron.com/-/media/client/global/documents/products/data-sheet/dram/256mb_sdr.pdf; Description_: 256M – (64M x 4 bit) Synchronous DRAM (SDRAM), TSOP-II-54
pins: 1 VDD, 2 NC, 3 VDDQ, 4 NC, 5 DQ0, 6 VSSQ, 7 NC, 8 NC, 9 VDDQ, 10 NC, 11 DQ1, 12 VSSQ, 13 NC, 14 VDD, 15 NC, 16 ~{{WE}}, 17 ~{{CAS}}, 18 ~{{RAS}}, 19 ~{{CS}}, 20 BA0, 21 BA1, 22 A10, 23 A0, 24 A1, 25 A2, 26 A3, 27 VDD, 28 VSS, 29 A4, 30 A5, 31 A6, 32 A7, 33 A8, 34 A9, 35 A11, 36 A12, 37 CKE, 38 CLK, 39 DQM, 40 NC, 41 VSS, 42 NC, 43 VDDQ, 44 DQ2, 45 NC, 46 VSSQ, 47 NC, 48 NC, 49 VDDQ, 50 DQ3, 51 NC, 52 VSSQ, 53 NC, 54 VSS

## MT48LC64M4A2TG
designator *  value MT48LC64M4A2TG  Reference: U
256M – (64M x 4 bit) Synchronous DRAM (SDRAM), TSOP-II-54; ki_keywords: SDRAM Synchronous DRAM PC100 PC133 256Mb 64Mbx4 MEMORY; ki_fp_filters: TSOP?II*22.2x10.16mm*P0.8mm*; Footprint: Package_SO:TSOP-II-54_22.2x10.16mm_P0.8mm; Datasheet: https://www.micron.com/-/media/client/global/documents/products/data-sheet/dram/256mb_sdr.pdf; Description_: 256M – (64M x 4 bit) Synchronous DRAM (SDRAM), TSOP-II-54
pins: 1 VDD, 2 NC, 3 VDDQ, 4 NC, 5 DQ0, 6 VSSQ, 7 NC, 8 NC, 9 VDDQ, 10 NC, 11 DQ1, 12 VSSQ, 13 NC, 14 VDD, 15 NC, 16 ~{{WE}}, 17 ~{{CAS}}, 18 ~{{RAS}}, 19 ~{{CS}}, 20 BA0, 21 BA1, 22 A10, 23 A0, 24 A1, 25 A2, 26 A3, 27 VDD, 28 VSS, 29 A4, 30 A5, 31 A6, 32 A7, 33 A8, 34 A9, 35 A11, 36 A12, 37 CKE, 38 CLK, 39 DQM, 40 NC, 41 VSS, 42 NC, 43 VDDQ, 44 DQ2, 45 NC, 46 VSSQ, 47 NC, 48 NC, 49 VDDQ, 50 DQ3, 51 NC, 52 VSSQ, 53 NC, 54 VSS

## R1LP0108ESF
designator *  value R1LP0108ESF  Reference: U
1-Mbit Advanced Low Power SRAM (128K x 8-bit), operating voltage 5V, 55/70ns, TSOP-32; ki_keywords: CMOS MEMORY Static 1Mbit; ki_fp_filters: *TSOP?I*18.4*8*P0.5mm*; Footprint: Package_SO:TSOP-I-32_18.4x8mm_P0.5mm; Datasheet: https://www.renesas.com/en/document/dst/r1lp0108e-series-datasheet; Description_: 1-Mbit Advanced Low Power SRAM (128K x 8-bit), operating voltage 5V, 55/70ns, TSOP-32
pins: 1 A11, 2 A9, 3 A8, 4 A13, 5 ~{{WE}}, 6 CS2/CE2, 7 A15, 8 VCC, 9 NC, 10 A16, 11 A14, 12 A12, 13 A7, 14 A6, 15 A5, 16 A4, 17 A3, 18 A2, 19 A1, 20 A0, 21 DQ0, 22 DQ1, 23 DQ2, 24 GND, 25 DQ3, 26 DQ4, 27 DQ5, 28 DQ6, 29 DQ7, 30 ~{{CS1}/}{CE1}, 31 A10, 32 ~{{OE}}

## R1LP0108ESN
designator *  value R1LP0108ESN  Reference: U
1-Mbit Advanced Low Power SRAM (128K x 8-bit), operating voltage 5V, 55/70ns, SOP-32; ki_keywords: CMOS MEMORY Static 1Mbit; ki_fp_filters: *SOP*11.4*20.*P1.27mm*; Footprint: Package_SO:Renesas_SOP-32_11.4x20.75mm_P1.27mm; Datasheet: https://www.renesas.com/en/document/dst/r1lp0108e-series-datasheet; Description_: 1-Mbit Advanced Low Power SRAM (128K x 8-bit), operating voltage 5V, 55/70ns, SOP-32
pins: 1 NC, 2 A16, 3 A14, 4 A12, 5 A7, 6 A6, 7 A5, 8 A4, 9 A3, 10 A2, 11 A1, 12 A0, 13 DQ0, 14 DQ1, 15 DQ2, 16 GND, 17 DQ3, 18 DQ4, 19 DQ5, 20 DQ6, 21 DQ7, 22 ~{{CS1}/}{CE1}, 23 A10, 24 ~{{OE}}, 25 A11, 26 A9, 27 A8, 28 A13, 29 ~{{WE}}, 30 CS2/CE2, 31 A15, 32 VCC

## TMM41256AP
designator *  value TMM41256AP  Reference: U
262144 x 1 bit Dynamic RAM, 100/120/150ns access time, single 5V ±10% power supply, TTL compatible inputs, DIP-16; ki_keywords: Toshiba DRAM NMOS 256Kbit MEMORY Obsolete; ki_fp_filters: DIP*7.62mm*; Footprint: Package_DIP:DIP-16_W7.62mm; Datasheet: https://minuszerodegrees.net/memory/41256/datasheet_TMM41256A.pdf; Description_: 262144 x 1 bit Dynamic RAM, 100/120/150ns access time, single 5V ±10% power supply, TTL compatible inputs, DIP-16
pins: 1 A8, 2 D_{IN}, 3 ~{{WRITE}}, 4 ~{{RAS}}, 5 A0, 6 A2, 7 A1, 8 V_{CC}, 9 A7, 10 A5, 11 A4, 12 A3, 13 A6, 14 D_{OUT}, 15 ~{{CAS}}, 16 V_{SS}

## uPD4168C
designator *  value uPD4168C  Reference: U
8192 x 8-bit Static NMOS XRAM, 120/150/200ns access time, 5V ±10% supply, DIP-28 (600 mil); ki_keywords: μPD4168C NEC 8KB 64Kbit 64-Kbit SRAM pseudostatic PSRAM MEMORY TTL-compatible Obsolete; ki_fp_filters: DIP*W15.24mm*; Footprint: Package_DIP:DIP-28_W15.24mm; Datasheet: https://archive.org/details/bitsavers_necdataBooBook_14399588/page/n233/mode/2up; Description_: 8192 x 8-bit Static NMOS XRAM, 120/150/200ns access time, 5V ±10% supply, DIP-28 (600 mil)
pins: 1 ~{{RFSH}}, 2 A_{12}, 3 A_{7}, 4 A_{6}, 5 A_{5}, 6 A_{4}, 7 A_{3}, 8 A_{2}, 9 A_{1}, 10 A_{0}, 11 I/O_{0}, 12 I/O_{1}, 13 I/O_{2}, 14 GND, 15 I/O_{3}, 16 I/O_{4}, 17 I/O_{5}, 18 I/O_{6}, 19 I/O_{7}, 20 ~{{CE}}, 21 A_{10}, 22 ~{{OE}}, 23 A_{11}, 24 A_{9}, 25 A_{8}, 26 CS, 27 ~{{WE}}, 28 V_{CC}

## uPD4364CX
designator *  value uPD4364CX  Reference: U
8192 x 8-bit Static CMOS RAM, 100/120/150ns access time, 5V ±10% supply, DIP-28 (300 mil); ki_keywords: μPD4364CX NEC 8KB 64Kbit 64-Kbit SRAM MEMORY TTL-compatible Obsolete; ki_fp_filters: DIP*W7.62mm*; Footprint: Package_DIP:DIP-28_W7.62mm; Datasheet: https://www.silicon-ark.co.uk/datasheets/upd4364-datasheet-nec.pdf; Description_: 8192 x 8-bit Static CMOS RAM, 100/120/150ns access time, 5V ±10% supply, DIP-28 (300 mil)
pins: 1 NC, 2 A_{12}, 3 A_{7}, 4 A_{6}, 5 A_{5}, 6 A_{4}, 7 A_{3}, 8 A_{2}, 9 A_{1}, 10 A_{0}, 11 I/O_{1}, 12 I/O_{2}, 13 I/O_{3}, 14 GND, 15 I/O_{4}, 16 I/O_{5}, 17 I/O_{6}, 18 I/O_{7}, 19 I/O_{8}, 20 ~{{CE_{1}}}, 21 A_{10}, 22 ~{{OE}}, 23 A_{11}, 24 A_{9}, 25 A_{8}, 26 CE_{2}, 27 ~{{WE}}, 28 V_{CC}

## W9812G6KH-5
designator *  value W9812G6KH-5  Reference: U
128Mb Synchronous DRAM, 2 Mb x 16 b x 4 Banks, 200 MHz, TSOP-II-54; ki_keywords: DRAM MEMORY; ki_fp_filters: TSOP?II*22.2x10.16mm*P0.8mm*; Footprint: Package_SO:TSOP-II-54_22.2x10.16mm_P0.8mm; Datasheet: https://www.winbond.com/resource-files/da00-w9812g6khc1.pdf; Description_: 128Mb Synchronous DRAM, 2 Mb x 16 b x 4 Banks, 200 MHz, TSOP-II-54
pins: 1 VDD, 2 DQ0, 3 VDDQ, 4 DQ1, 5 DQ2, 6 VSSQ, 7 DQ3, 8 DQ4, 9 VDDQ, 10 DQ5, 11 DQ6, 12 VSSQ, 13 DQ7, 14 VDD, 15 LDQM, 16 ~{{WE}}, 17 ~{{CAS}}, 18 ~{{RAS}}, 19 ~{{CS}}, 20 BS0, 21 BS1, 22 A10/AP, 23 A0, 24 A1, 25 A2, 26 A3, 27 VDD, 28 VSS, 29 A4, 30 A5, 31 A6, 32 A7, 33 A8, 34 A9, 35 A11, 36 NC, 37 CKE, 38 CLK, 39 UDQM, 40 NC, 41 VSS, 42 DQ8, 43 VDDQ, 44 DQ9, 45 DQ10, 46 VSSQ, 47 DQ11, 48 DQ12, 49 VDDQ, 50 DQ13, 51 DQ14, 52 VSSQ, 53 DQ15, 54 VSS

## W9812G6KH-6
designator *  value W9812G6KH-6  Reference: U
128Mb Synchronous DRAM, 2 Mb x 16 b x 4 Banks, 166 MHz, TSOP-II-54; ki_keywords: DRAM MEMORY; ki_fp_filters: TSOP?II*22.2x10.16mm*P0.8mm*; Footprint: Package_SO:TSOP-II-54_22.2x10.16mm_P0.8mm; Datasheet: https://www.winbond.com/resource-files/da00-w9812g6khc1.pdf; Description_: 128Mb Synchronous DRAM, 2 Mb x 16 b x 4 Banks, 166 MHz, TSOP-II-54
pins: 1 VDD, 2 DQ0, 3 VDDQ, 4 DQ1, 5 DQ2, 6 VSSQ, 7 DQ3, 8 DQ4, 9 VDDQ, 10 DQ5, 11 DQ6, 12 VSSQ, 13 DQ7, 14 VDD, 15 LDQM, 16 ~{{WE}}, 17 ~{{CAS}}, 18 ~{{RAS}}, 19 ~{{CS}}, 20 BS0, 21 BS1, 22 A10/AP, 23 A0, 24 A1, 25 A2, 26 A3, 27 VDD, 28 VSS, 29 A4, 30 A5, 31 A6, 32 A7, 33 A8, 34 A9, 35 A11, 36 NC, 37 CKE, 38 CLK, 39 UDQM, 40 NC, 41 VSS, 42 DQ8, 43 VDDQ, 44 DQ9, 45 DQ10, 46 VSSQ, 47 DQ11, 48 DQ12, 49 VDDQ, 50 DQ13, 51 DQ14, 52 VSSQ, 53 DQ15, 54 VSS

## W9812G6KH-6I
designator *  value W9812G6KH-6I  Reference: U
128Mb Synchronous DRAM, 2 Mb x 16 b x 4 Banks, 166 MHz, TSOP-II-54; ki_keywords: DRAM MEMORY; ki_fp_filters: TSOP?II*22.2x10.16mm*P0.8mm*; Footprint: Package_SO:TSOP-II-54_22.2x10.16mm_P0.8mm; Datasheet: https://www.winbond.com/resource-files/da00-w9812g6khc1.pdf; Description_: 128Mb Synchronous DRAM, 2 Mb x 16 b x 4 Banks, 166 MHz, TSOP-II-54
pins: 1 VDD, 2 DQ0, 3 VDDQ, 4 DQ1, 5 DQ2, 6 VSSQ, 7 DQ3, 8 DQ4, 9 VDDQ, 10 DQ5, 11 DQ6, 12 VSSQ, 13 DQ7, 14 VDD, 15 LDQM, 16 ~{{WE}}, 17 ~{{CAS}}, 18 ~{{RAS}}, 19 ~{{CS}}, 20 BS0, 21 BS1, 22 A10/AP, 23 A0, 24 A1, 25 A2, 26 A3, 27 VDD, 28 VSS, 29 A4, 30 A5, 31 A6, 32 A7, 33 A8, 34 A9, 35 A11, 36 NC, 37 CKE, 38 CLK, 39 UDQM, 40 NC, 41 VSS, 42 DQ8, 43 VDDQ, 44 DQ9, 45 DQ10, 46 VSSQ, 47 DQ11, 48 DQ12, 49 VDDQ, 50 DQ13, 51 DQ14, 52 VSSQ, 53 DQ15, 54 VSS

## W9812G6KH-75
designator *  value W9812G6KH-75  Reference: U
128Mb Synchronous DRAM, 2 Mb x 16 b x 4 Banks, 133 MHz, TSOP-II-54; ki_keywords: DRAM MEMORY; ki_fp_filters: TSOP?II*22.2x10.16mm*P0.8mm*; Footprint: Package_SO:TSOP-II-54_22.2x10.16mm_P0.8mm; Datasheet: https://www.winbond.com/resource-files/da00-w9812g6khc1.pdf; Description_: 128Mb Synchronous DRAM, 2 Mb x 16 b x 4 Banks, 133 MHz, TSOP-II-54
pins: 1 VDD, 2 DQ0, 3 VDDQ, 4 DQ1, 5 DQ2, 6 VSSQ, 7 DQ3, 8 DQ4, 9 VDDQ, 10 DQ5, 11 DQ6, 12 VSSQ, 13 DQ7, 14 VDD, 15 LDQM, 16 ~{{WE}}, 17 ~{{CAS}}, 18 ~{{RAS}}, 19 ~{{CS}}, 20 BS0, 21 BS1, 22 A10/AP, 23 A0, 24 A1, 25 A2, 26 A3, 27 VDD, 28 VSS, 29 A4, 30 A5, 31 A6, 32 A7, 33 A8, 34 A9, 35 A11, 36 NC, 37 CKE, 38 CLK, 39 UDQM, 40 NC, 41 VSS, 42 DQ8, 43 VDDQ, 44 DQ9, 45 DQ10, 46 VSSQ, 47 DQ11, 48 DQ12, 49 VDDQ, 50 DQ13, 51 DQ14, 52 VSSQ, 53 DQ15, 54 VSS